# EAGLE library part TS912 (library TS912)
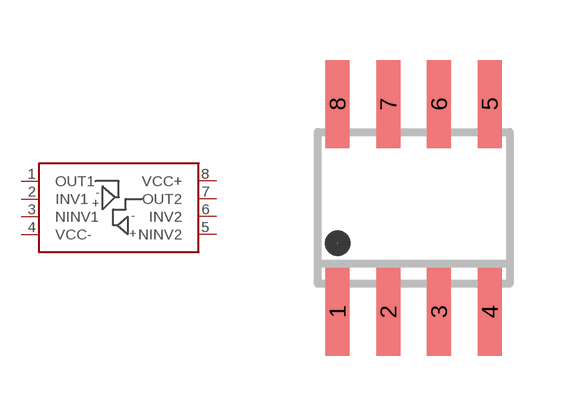
[diagram p0: symbol with the pads of SO-08; footprint SO-08]

Designator prefix -

## TS912  [SO-08]
1  OUT1
2  INV1
3  NINV1
4  VCC-
5  NINV2
6  INV2
7  OUT2
8  VCC+

## Footprint SO-08 (pad centres in mm)
Small Outline Narrow Plastic Gull Wing 150-mil body, package type SN
smd 0.6 x 2.2: 1 -1.905,-2.6; 2 -0.635,-2.6; 3 0.635,-2.6; 4 1.905,-2.6; 5 1.905,2.6; 6 0.635,2.6; 7 -0.635,2.6; 8 -1.905,2.6